# Altium footprint library Resistor_SMD.PcbLib: 62 footprints (part 3 of 4)
Each footprint in its own frame and in the unit in brackets; x right, y up, seen from the top. Pads: shape width x height; smd on the part's side, far side on the other; paste and mask are expansions set on the pad; w line width, h text height; cw(c..) or ccw(c..) is an arc to the next point about the centre after c.
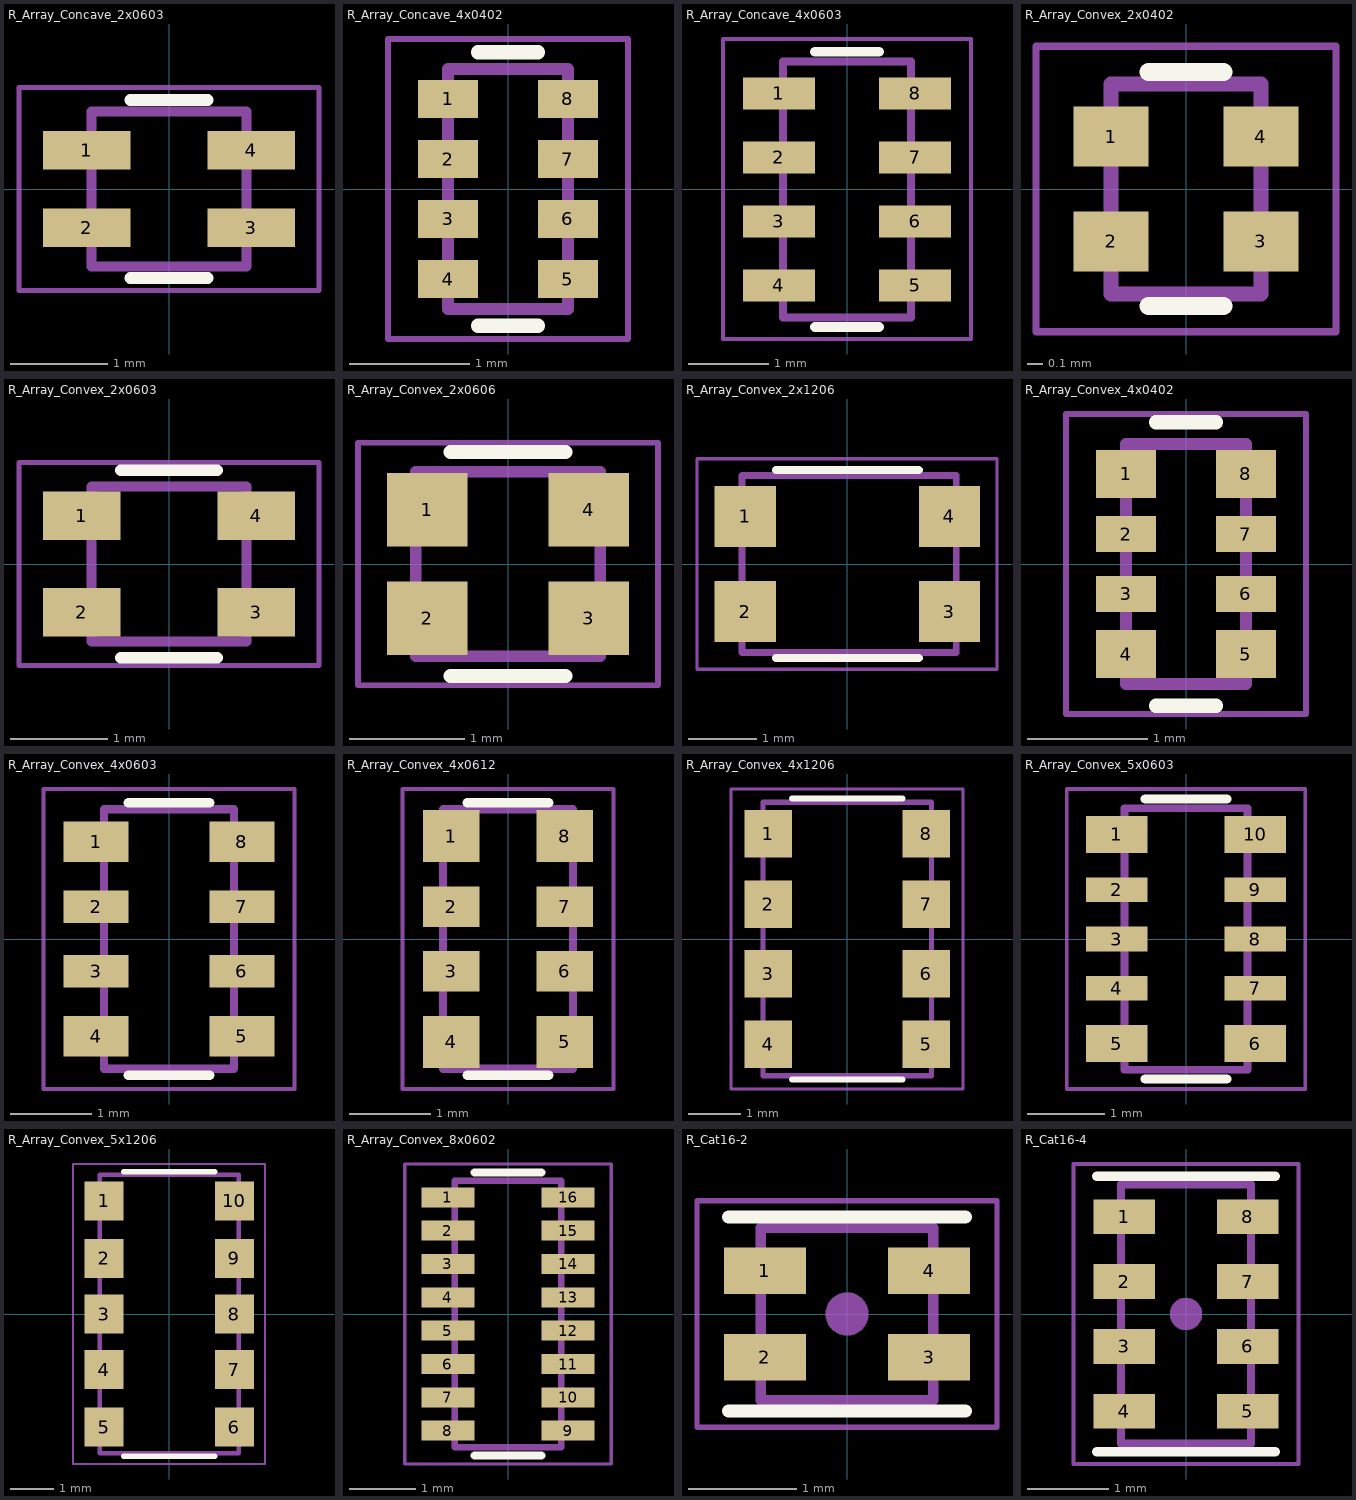
[diagram p2: the footprints below, top view; thin cyan lines are the x and y axes]

## R_Array_Concave_2x0603 [mm]
pads (4):
  rect 0.9x0.4 smd: 1(-0.85,0.4) 2(-0.85,-0.4) 3(0.85,-0.4) 4(0.85,0.4)
F.SilkS:
  lines w0.12: -0.4,-0.92 0.4,-0.92 ; -0.4,0.92 0.4,0.92
F.CrtYd:
  lines w0.05: -1.55,-1.05 1.55,-1.05 1.55,1.05 -1.55,1.05 -1.55,-1.05
F.Fab:
  lines w0.1: -0.8,-0.8 0.8,-0.8 0.8,0.8 -0.8,0.8 -0.8,-0.8
  text "'.Designator'" at -4.047,0.91 h1
3D body "R_Array_Concave_2x0603.step": height 0.6, standoff 0, extent -0.8,-0.8 0.8,0.8

## R_Array_Concave_4x0402 [mm]
pads (8):
  rect 0.5x0.32 smd: 1(-0.5,0.75) 2(-0.5,0.25) 3(-0.5,-0.25) 4(-0.5,-0.75) 5(0.5,-0.75) 6(0.5,-0.25) 7(0.5,0.25) 8(0.5,0.75)
F.SilkS:
  lines w0.12: -0.25,-1.14 0.25,-1.14 ; -0.25,1.14 0.25,1.14
F.CrtYd:
  lines w0.05: -1,-1.25 -1,1.25 1,1.25 1,-1.25 -1,-1.25
F.Fab:
  lines w0.1: -0.5,-1 0.5,-1 0.5,1 -0.5,1 -0.5,-1
  text "'.Designator'" at 0.179,-1.948 h0.5
3D body "R_Array_Concave_4x0402.step": height 0.45, standoff 0, extent -0.5,-1 0.5,1

## R_Array_Concave_4x0603 [mm]
pads (8):
  rect 0.9x0.4 smd: 1(-0.85,1.2) 2(-0.85,0.4) 3(-0.85,-0.4) 4(-0.85,-1.2) 5(0.85,-1.2) 6(0.85,-0.4) 7(0.85,0.4) 8(0.85,1.2)
F.SilkS:
  lines w0.12: -0.4,-1.72 0.4,-1.72 ; -0.4,1.72 0.4,1.72
F.CrtYd:
  lines w0.05: -1.55,-1.87 1.55,-1.87 1.55,1.88 -1.55,1.88 -1.55,-1.87
F.Fab:
  lines w0.1: -0.8,-1.6 0.8,-1.6 0.8,1.6 -0.8,1.6 -0.8,-1.6
  text "'.Designator'" at 0.179,-1.948 h0.5
3D body "R_Array_Concave_4x0603.step": height 0.6, standoff 0, extent -0.8,-1.6 0.8,1.6

## R_Array_Convex_2x0402 [mm]
pads (4):
  rect 0.5x0.4 smd: 1(-0.5,0.35) 2(-0.5,-0.35) 3(0.5,-0.35) 4(0.5,0.35)
F.SilkS:
  lines w0.12: -0.25,-0.78 0.25,-0.78 ; -0.25,0.78 0.25,0.78
F.CrtYd:
  lines w0.05: -1,-0.95 -1,0.95 1,0.95 1,-0.95 -1,-0.95
F.Fab:
  lines w0.1: -0.5,-0.7 -0.5,0.7 0.5,0.7 0.5,-0.7 -0.5,-0.7
  text "'.Designator'" at -4.047,0.91 h1
3D body "R_Array_Convex_2x0402.step": height 0.35, standoff 0, extent -0.5,-0.5 0.5,0.5

## R_Array_Convex_2x0603 [mm]
pads (4):
  rect 0.8x0.5 smd: 1(-0.9,0.5) 2(-0.9,-0.5) 3(0.9,-0.5) 4(0.9,0.5)
F.SilkS:
  lines w0.12: -0.5,-0.97 0.5,-0.97 ; -0.5,0.97 0.5,0.97
F.CrtYd:
  lines w0.05: -1.55,-1.05 1.55,-1.05 1.55,1.05 -1.55,1.05 -1.55,-1.05
F.Fab:
  lines w0.1: -0.8,-0.8 -0.8,0.8 0.8,0.8 0.8,-0.8 -0.8,-0.8
  text "'.Designator'" at -4.047,0.91 h1
3D body "R_Array_Convex_2x0603.step": height 0.5, standoff 0, extent -0.8,-0.8 0.8,0.8

## R_Array_Convex_2x0606 [mm]
pads (4):
  rect 0.7x0.64 smd: 1(-0.7,0.47) 2(-0.7,-0.47) 3(0.7,-0.47) 4(0.7,0.47)
F.SilkS:
  lines w0.12: -0.5,-0.97 0.5,-0.97 ; -0.5,0.97 0.5,0.97
F.CrtYd:
  lines w0.05: -1.3,-1.05 -1.3,1.05 1.3,1.05 1.3,-1.05 -1.3,-1.05
F.Fab:
  lines w0.1: -0.8,-0.8 0.8,-0.8 0.8,0.8 -0.8,0.8 -0.8,-0.8
  text "'.Designator'" at -4.047,0.91 h1

## R_Array_Convex_2x1206 [mm]
pads (4):
  rect 0.9x0.9 smd: 1(-1.5,0.7) 2(-1.5,-0.7) 3(1.5,-0.7) 4(1.5,0.7)
F.SilkS:
  lines w0.12: -1.05,-1.38 1.05,-1.38 ; -1.05,1.38 1.05,1.38
F.CrtYd:
  lines w0.05: -2.21,-1.55 2.2,-1.55 2.2,1.55 -2.21,1.55 -2.21,-1.55
F.Fab:
  lines w0.1: -1.55,-1.3 -1.55,1.3 1.6,1.3 1.6,-1.3 -1.55,-1.3
  text "'.Designator'" at -2.728,-0.25 h0.7
3D body "R_Array_Convex_2x1206.step": height 0.55, standoff 0, extent -1.55,-1.3 1.55,1.3

## R_Array_Convex_4x0402 [mm]
pads (8):
  rect 0.5x0.4 smd: 1(-0.5,0.75) 4(-0.5,-0.75) 5(0.5,-0.75) 8(0.5,0.75)
  rect 0.5x0.3 smd: 2(-0.5,0.25) 3(-0.5,-0.25) 6(0.5,-0.25) 7(0.5,0.25)
F.SilkS:
  lines w0.12: -0.25,-1.18 0.25,-1.18 ; -0.25,1.18 0.25,1.18
F.CrtYd:
  lines w0.05: -1,-1.25 1,-1.25 1,1.25 -1,1.25 -1,-1.25
F.Fab:
  lines w0.1: -0.5,-1 -0.5,1 0.5,1 0.5,-1 -0.5,-1
  text "'.Designator'" at 0.179,-1.948 h0.5
3D body "R_Array_Convex_4x0402.step": height 0.35, standoff 0, extent -0.5,-1 0.5,1

## R_Array_Convex_4x0603 [mm]
pads (8):
  rect 0.8x0.5 smd: 1(-0.9,1.2) 4(-0.9,-1.2) 5(0.9,-1.2) 8(0.9,1.2)
  rect 0.8x0.4 smd: 2(-0.9,0.4) 3(-0.9,-0.4) 6(0.9,-0.4) 7(0.9,0.4)
F.SilkS:
  lines w0.12: -0.5,-1.68 0.5,-1.68 ; -0.5,1.68 0.5,1.68
F.CrtYd:
  lines w0.05: -1.55,-1.85 1.55,-1.85 1.55,1.85 -1.55,1.85 -1.55,-1.85
F.Fab:
  lines w0.1: -0.8,-1.6 -0.8,1.6 0.8,1.6 0.8,-1.6 -0.8,-1.6
  text "'.Designator'" at 0.179,-1.948 h0.5
3D body "R_Array_Convex_4x0603.step": height 0.5, standoff 0, extent -0.8,-1.6 0.8,1.6

## R_Array_Convex_4x0612 [mm]
pads (8):
  rect 0.7x0.64 smd: 1(-0.7,1.27) 4(-0.7,-1.27) 5(0.7,-1.27) 8(0.7,1.27)
  rect 0.7x0.5 smd: 2(-0.7,0.4) 3(-0.7,-0.4) 6(0.7,-0.4) 7(0.7,0.4)
F.SilkS:
  lines w0.12: -0.5,-1.68 0.5,-1.68 ; -0.5,1.68 0.5,1.68
F.CrtYd:
  lines w0.05: -1.3,-1.85 -1.3,1.85 1.3,1.85 1.3,-1.85 -1.3,-1.85
F.Fab:
  lines w0.1: -0.8,-1.6 -0.8,1.6 0.8,1.6 0.8,-1.6 -0.8,-1.6
  text "'.Designator'" at 0.179,-1.948 h0.5

## R_Array_Convex_4x1206 [mm]
pads (8):
  rect 0.9x0.9 smd: 1(-1.5,2) 2(-1.5,0.66) 3(-1.5,-0.66) 4(-1.5,-2) 5(1.5,-2) 6(1.5,-0.66) 7(1.5,0.66) 8(1.5,2)
F.SilkS:
  lines w0.12: -1.05,-2.67 1.05,-2.67 ; -1.05,2.67 1.05,2.67
F.CrtYd:
  lines w0.05: -2.21,-2.85 -2.21,2.85 2.2,2.85 2.2,-2.85 -2.21,-2.85
F.Fab:
  lines w0.1: -1.6,-2.6 1.6,-2.6 1.6,2.6 -1.6,2.6 -1.6,-2.6
  text "'.Designator'" at 0.25,-2.728 h0.7
3D body "R_Array_Convex_4x1206.step": height 0.55, standoff 0, extent -1.55,-2.7 1.55,2.7

## R_Array_Convex_5x0603 [mm]
pads (10):
  rect 0.8x0.48 smd: 1(-0.9,1.36) 5(-0.9,-1.36) 6(0.9,-1.36) 10(0.9,1.36)
  rect 0.8x0.32 smd: 2(-0.9,0.64) 3(-0.9,0) 4(-0.9,-0.64) 7(0.9,-0.64) 8(0.9,0) 9(0.9,0.64)
F.SilkS:
  lines w0.12: -0.53,-1.82 0.53,-1.82 ; -0.53,1.82 0.53,1.82
F.CrtYd:
  lines w0.05: -1.55,-1.95 1.55,-1.95 1.55,1.95 -1.55,1.95 -1.55,-1.95
F.Fab:
  lines w0.1: -0.8,-1.7 -0.8,1.7 0.8,1.7 0.8,-1.7 -0.8,-1.7
  text "'.Designator'" at 0.179,-1.948 h0.5
3D body "R_Array_Convex_5x0603.step": height 0.5, standoff 0, extent -0.8,-1.6 0.8,1.6

## R_Array_Convex_5x1206 [mm]
pads (10):
  rect 0.9x0.9 smd: 1(-1.5,2.6) 2(-1.5,1.28) 3(-1.5,0) 4(-1.5,-1.28) 5(-1.5,-2.6) 6(1.5,-2.6) 7(1.5,-1.28) 8(1.5,0) 9(1.5,1.28) 10(1.5,2.6)
F.SilkS:
  lines w0.12: -1.05,-3.27 1.05,-3.27 ; -1.05,3.27 1.05,3.27
F.CrtYd:
  lines w0.05: -2.21,-3.45 -2.21,3.45 2.2,3.45 2.2,-3.45 -2.21,-3.45
F.Fab:
  lines w0.1: -1.6,-3.2 -1.6,3.2 1.6,3.2 1.6,-3.2 -1.6,-3.2
  text "'.Designator'" at 0.357,-3.897 h1
3D body "R_Array_Convex_5x1206.step": height 0.55, standoff 0, extent -1.55,-3.2 1.55,3.2

## R_Array_Convex_8x0602 [mm]
pads (16):
  rect 0.8x0.3 smd: 1(-0.9,1.75) 2(-0.9,1.25) 3(-0.9,0.75) 4(-0.9,0.25) 5(-0.9,-0.25) 6(-0.9,-0.75) 7(-0.9,-1.25) 8(-0.9,-1.75) 9(0.9,-1.75) 10(0.9,-1.25) 11(0.9,-0.75) 12(0.9,-0.25) 13(0.9,0.25) 14(0.9,0.75) 15(0.9,1.25) 16(0.9,1.75)
F.SilkS:
  lines w0.12: -0.5,-2.12 0.5,-2.12 ; -0.5,2.12 0.5,2.12
F.CrtYd:
  lines w0.05: -1.55,-2.25 1.55,-2.25 1.55,2.25 -1.55,2.25 -1.55,-2.25
F.Fab:
  lines w0.1: -0.8,-2 0.8,-2 0.8,2 -0.8,2 -0.8,-2
  text "'.Designator'" at 0.357,-3.897 h1
3D body "R_Array_Convex_8x0602.step": height 0.45, standoff 0, extent -0.8,-1.95 0.8,1.95

## R_Cat16-2 [mm]
pads (4):
  rect 0.76x0.43 smd: 1(-0.76,0.4) 2(-0.76,-0.4) 3(0.76,-0.4) 4(0.76,0.4)
F.SilkS:
  lines w0.12: -1.1,-0.9 1.1,-0.9 ; -1.1,0.9 1.1,0.9
F.CrtYd:
  lines w0.05: -1.39,-1.05 -1.39,1.05 1.39,1.05 1.39,-1.05 -1.39,-1.05
F.Fab:
  lines w0.1: -0.8,-0.8 0.8,-0.8 0.8,0.8 -0.8,0.8 -0.8,-0.8
  text "'.Designator'" at -4.047,0.91 h1
F.Adhes:
  circle w0.2: c0,0 r0.1
3D body "R_Cat16-2.step": height 0.5, standoff 0, extent -0.8,-0.8 0.8,0.8

## R_Cat16-4 [mm]
pads (8):
  rect 0.76x0.43 smd: 1(-0.76,1.2) 2(-0.76,0.4) 3(-0.76,-0.4) 4(-0.76,-1.2) 5(0.76,-1.2) 6(0.76,-0.4) 7(0.76,0.4) 8(0.76,1.2)
F.SilkS:
  lines w0.12: -1.1,-1.7 1.1,-1.7 ; -1.1,1.7 1.1,1.7
F.CrtYd:
  lines w0.05: -1.39,-1.85 1.39,-1.85 1.39,1.85 -1.39,1.85 -1.39,-1.85
F.Fab:
  lines w0.1: -0.8,-1.6 0.8,-1.6 0.8,1.6 -0.8,1.6 -0.8,-1.6
  text "'.Designator'" at 0.42,-2.023 h0.5
F.Adhes:
  circle w0.2: c0,0 r0.1
3D body "R_Cat16-4.step": height 0.5, standoff 0, extent -0.8,-1.6 0.8,1.6